# Altium footprint library 618 0xx 250 23.PcbLib: 4 footprints
Each footprint in its own frame and in the unit in brackets; x right, y up, seen from the top. Pads: shape width x height; smd on the part's side, far side on the other; paste and mask are expansions set on the pad; w line width, h text height; cw(c..) or ccw(c..) is an arc to the next point about the centre after c.
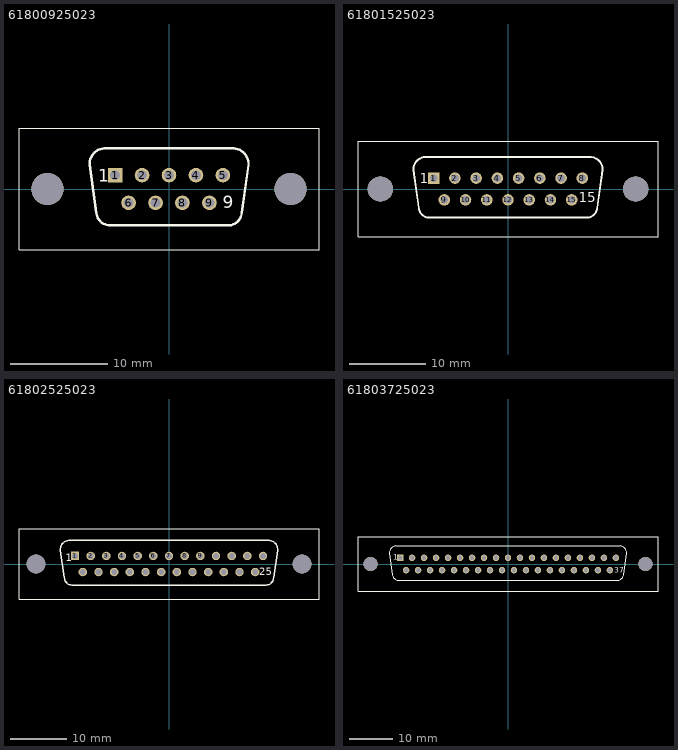
[diagram p0: the footprints below, top view; thin cyan lines are the x and y axes]

## 61800925023 [mm] "9 pins, straight"
height 10.9
pads (11):
  rect 1.5x1.5 hole 1: 1(-5.54,1.42)
  round 1.5 hole 1: 2(-2.77,1.42) 3(0,1.42) 4(2.77,1.42) 5(5.54,1.42) 6(-4.155,-1.42) 7(-1.385,-1.42) 8(1.385,-1.42) 9(4.155,-1.42)
  round 3.3 hole 3.3 unplated: ""(-12.495,0) ""(12.495,0)
Top Overlay:
  lines w0.127: -15.408,-6.25 -15.408,6.25 15.408,6.25 15.408,-6.25 -15.408,-6.25
  lines w0.254: 5.991,-3.729 ccw(c6.09,-2.342) 7.477,-2.441 8.165,2.459 ccw(c6.559,2.565) 6.665,4.171 ; 5.991,-3.725 -5.976,-3.725 cw(c-6.075,-2.339) -7.462,-2.438 -8.15,2.462 cw(c-6.544,2.569) -6.65,4.175 6.665,4.175
  text "1" at -7.25,0.75 h1.27
  text "9" at 5.5,-2 h1.27
3D body: height 12.84, standoff -3.66, extent -15.405,-6.25 15.405,6.25

## 61801525023 [mm] "15 pins, straight"
height 10.9
pads (17):
  rect 1.5x1.5 hole 1: 1(-9.695,1.42)
  round 1.5 hole 1: 2(-6.925,1.42) 3(-4.155,1.42) 4(-1.385,1.42) 5(1.385,1.42) 6(4.155,1.42) 7(6.925,1.42) 8(9.695,1.42) 9(-8.31,-1.42) 10(-5.54,-1.42) 11(-2.77,-1.42) 12(0,-1.42) 13(2.77,-1.42) 14(5.54,-1.42) 15(8.31,-1.42)
  round 3.3 hole 3.3 unplated: ""(-16.66,0) ""(16.66,0)
Top Overlay:
  lines w0.127: -19.57,-6.25 19.57,-6.25 19.57,6.25 -19.57,6.25 -19.57,-6.25
  lines w0.254: -11.05,4.171 10.83,4.171 cw(c10.724,2.565) 12.33,2.459 11.642,-2.441 cw(c10.255,-2.342) 10.156,-3.729 -10.156,-3.729 cw(c-10.255,-2.342) -11.642,-2.441 -12.33,2.459 cw(c-10.724,2.565) -10.83,4.171
  text "15" at 9.25,-1.75 h1.27
  text "1" at -11.5,0.75 h1.27
3D body: height 12.9, standoff -3.6, extent -19.57,-6.25 19.57,6.25

## 61802525023 [mm] "25 pins, straight"
height 10.9
pads (27):
  rect 1.5x1.5 hole 1: 1(-16.62,1.42)
  round 1.5 hole 1: 2(-13.85,1.42) 3(-11.08,1.42) 4(-8.31,1.42) 5(-5.54,1.42) 6(-2.77,1.42) 7(0,1.42) 8(2.77,1.42) 9(5.54,1.42) 10(8.31,1.42) 11(11.08,1.42) 12(13.85,1.42) 13(16.62,1.42) 14(-15.235,-1.42) 15(-12.465,-1.42) 16(-9.695,-1.42) 17(-6.925,-1.42) 18(-4.155,-1.42) 19(-1.385,-1.42) 20(1.385,-1.42) 21(4.155,-1.42) 22(6.925,-1.42) 23(9.695,-1.42) 24(12.465,-1.42) 25(15.235,-1.42)
  round 3.3 hole 3.3 unplated: ""(-23.52,0) ""(23.52,0)
Top Overlay:
  lines w0.127: -26.52,-6.25 26.52,-6.25 26.52,6.25 -26.52,6.25 -26.52,-6.25
  lines w0.254: -17.69,4.171 ccw(c-17.584,2.565) -19.19,2.459 -18.502,-2.441 ccw(c-17.115,-2.342) -17.016,-3.729 ; -17.675,4.171 17.69,4.171 cw(c17.584,2.565) 19.19,2.459 18.502,-2.441 cw(c17.115,-2.342) 17.016,-3.729 ; -17.002,-3.729 17.001,-3.729
  text "1" at -18.25,0.5 h1.27
  text "25" at 16,-2 h1.27
3D body: height 12.84, standoff -3.66, extent -26.52,-6.25 26.52,6.25

## 61803725023 [mm] "37 pins, straight"
height 10.9
pads (39):
  rect 1.5x1.5 hole 1: 1(-24.93,1.42)
  round 1.5 hole 1: 2(-22.16,1.42) 3(-19.39,1.42) 4(-16.62,1.42) 5(-13.85,1.42) 6(-11.08,1.42) 7(-8.31,1.42) 8(-5.54,1.42) 9(-2.77,1.42) 10(0,1.42) 11(2.77,1.42) 12(5.54,1.42) 13(8.31,1.42) 14(11.08,1.42) 15(13.85,1.42) 16(16.62,1.42) 17(19.39,1.42) 18(22.16,1.42) 19(24.93,1.42) 20(-23.545,-1.42) 21(-20.775,-1.42) 22(-18.005,-1.42) 23(-15.235,-1.42) 24(-12.465,-1.42) 25(-9.695,-1.42) 26(-6.925,-1.42) 27(-4.155,-1.42) 28(-1.385,-1.42) 29(1.385,-1.42) 30(4.155,-1.42) 31(6.925,-1.42) 32(9.695,-1.42) 33(12.465,-1.42) 34(15.235,-1.42) 35(18.005,-1.42) 36(20.775,-1.42) 37(23.545,-1.42)
  round 3.3 hole 3.3 unplated: ""(-31.75,0) ""(31.75,0)
Top Overlay:
  lines w0.127: -34.66,-6.25 -34.66,6.25 34.66,6.25 34.66,-6.25 -34.66,-6.25
  lines w0.254: -25.92,4.171 ccw(c-25.814,2.565) -27.42,2.459 -26.732,-2.441 ccw(c-25.345,-2.342) -25.246,-3.729 ; -25.9,4.171 25.92,4.171 cw(c25.814,2.565) 27.42,2.459 26.732,-2.441 cw(c25.345,-2.342) 25.246,-3.729 ; -25.225,-3.729 25.231,-3.729
  text "37" at 24.5,-2 h1.27
  text "1" at -26.5,1 h1.27
3D body: height 12.9, standoff -3.6, extent -34.66,-6.25 34.66,6.25